# EAGLE library part CON06X2 (library Connectors)
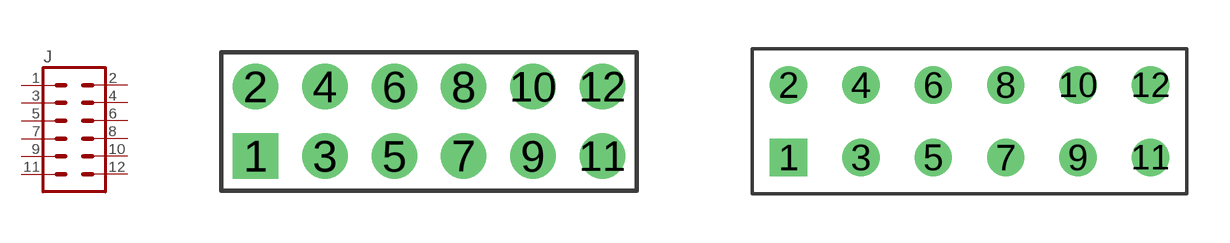
[diagram p0: symbol with the pads of CON06X2-2MM; footprints CON06X2-2MM, CON06X2_PTH]

Designator prefix J

## CON06X2PTH_2MM  [CON06X2-2MM]
1  1  pas
2  2  pas
3  3  pas
4  4  pas
5  5  pas
6  6  pas
7  7  pas
8  8  pas
9  9  pas
10  10  pas
11  11  pas
12  12  pas

## CON06X2PTH  [CON06X2_PTH]
Pads as for CON06X2-2MM

## CON06X2SOCKET_PTH  [SOCKET06X2]
Pads as for CON06X2-2MM

## Footprint CON06X2-2MM (pad centres in mm)
drill 0.8 square: 1 -5,-1
drill 0.8: 2 -5,1; 3 -3,-1; 4 -3,1; 5 -1,-1; 6 -1,1; 7 1,-1; 8 1,1; 9 3,-1; 10 3,1; 11 5,-1; 12 5,1

## Footprint CON06X2_PTH (pad centres in mm)
drill 0.8 square: 1 -6.35,-1.27
drill 0.8: 2 -6.35,1.27; 3 -3.81,-1.27; 4 -3.81,1.27; 5 -1.27,-1.27; 6 -1.27,1.27; 7 1.27,-1.27; 8 1.27,1.27; 9 3.81,-1.27; 10 3.81,1.27; 11 6.35,-1.27; 12 6.35,1.27

## Footprint SOCKET06X2 (pad centres in mm)
drill 0.8 square: 1 -6.35,-1.27
drill 0.8: 2 -6.35,1.27; 3 -3.81,-1.27; 4 -3.81,1.27; 5 -1.27,-1.27; 6 -1.27,1.27; 7 1.27,-1.27; 8 1.27,1.27; 9 3.81,-1.27; 10 3.81,1.27; 11 6.35,-1.27; 12 6.35,1.27